# Altium footprint library PCB - LEADED - SOT - ROHM SOT-723.PCBLIB: 1 footprints
Each footprint in its own frame and in the unit in brackets; x right, y up, seen from the top. Pads: shape width x height; smd on the part's side, far side on the other; paste and mask are expansions set on the pad; w line width, h text height; cw(c..) or ccw(c..) is an arc to the next point about the centre after c.
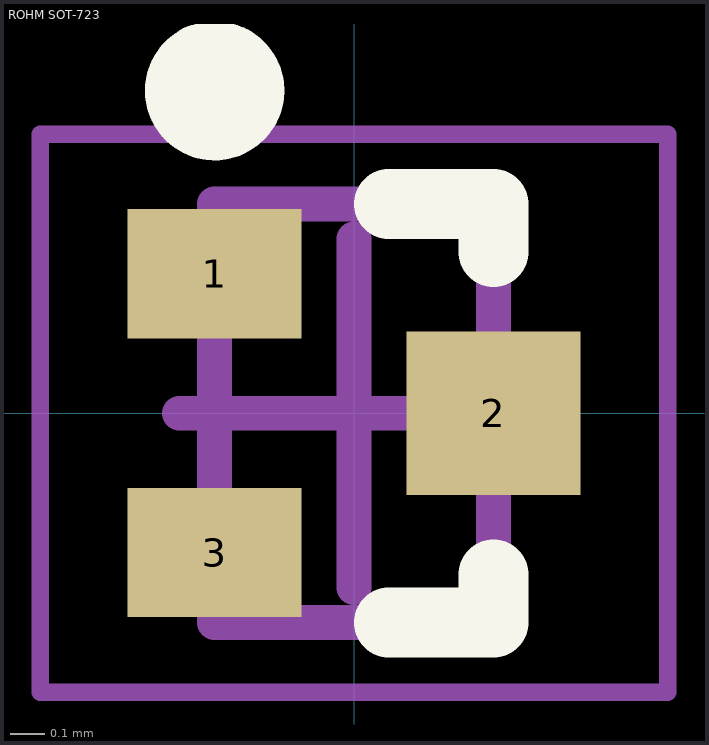
[diagram p0: the footprint, top view; thin cyan lines are the x and y axes]

## ROHM SOT-723 [mm] "SOT-723, 3-Leads, Body 0.8x1.20mm, Pitch 0.40mm, IPC Medium Density"
height 0.55
pads (3):
  rect 0.5x0.37 smd: 1(-0.4,0.4) 3(-0.4,-0.4)
  rect 0.5x0.47 smd: 2(0.4,0)
Top Overlay:
  circle w0.2: c-0.4,0.925 r0.1
  lines w0.2: 0.1,-0.6 0.4,-0.6 0.4,-0.463 ; 0.1,0.6 0.4,0.6 0.4,0.463
Mechanical 13:
  lines w0.1: -0.4,-0.6 0.4,-0.6 0.4,0.6 -0.4,0.6 -0.4,-0.6
Mechanical 15:
  lines w0.05: -0.9,-0.8 0.9,-0.8 0.9,0.8 -0.9,0.8 -0.9,-0.8
  lines w0.1: -0.5,0 0.5,0 ; 0,-0.5 0,0.5
3D body "SOT-723.step": height 0.55, standoff 0, extent -0.6,-0.6 0.6,0.6